# Altium integrated library SLA-12VDC-SL-C.IntLib: 1 symbol
Pins are listed as number, name and electrical type; pins without a type are passive.

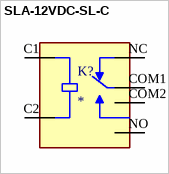
[diagram p0: symbol SLA-12VDC-SL-C]

## SLA-12VDC-SL-C
designator K?
SUBMINATURE HIGH POWER RELAY; MP: SLA-12VDC-SL-C; MF: Songle Relay; Value: *; SnapEDA_Link: https://www.snapeda.com/parts/SLA-12VDC-SL-C/Songle+Relay/view-part/?ref=snap; Check_prices: https://www.snapeda.com/parts/SLA-12VDC-SL-C/Songle+Relay/view-part/?ref=eda; Availability: Not in stock; Price: None; Package: None
footprint RELAY_SLA-12VDC-SL-C
pins: C1 COIL1, C2 COIL2, COM1 COM, COM2 COM, NC, NO